# Altium schematic symbol library TPS4306(0,1).SchLib: 1 symbol
Pins are listed as number, name and electrical type; pins without a type are passive.

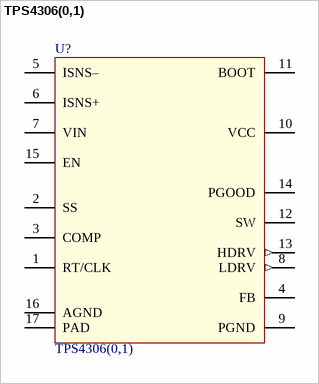
[diagram p0: symbol TPS4306(0,1)]

## TPS4306(0,1)
designator U?
value: TPS4306(0,1)
footprint PWQFN-16 (PQFN, 16-Leads, Body 3,00x3,00mm, Pitch 0,50mm, Thermal Pad 0.8x1.2mm, IPC Medium Density)
pins: 1 RT/CLK, 2 SS, 3 COMP, 4 FB, 5 ISNS–, 6 ISNS+, 7 VIN (power), 8 LDRV (out), 9 PGND, 10 VCC (power), 11 BOOT, 12 SW, 13 HDRV (out), 14 PGOOD (oc), 15 EN, 16 AGND (power), 17 PAD (power)